# Altium schematic symbol library Current_and_Power_Monitors_and_Regulators.SchLib: 3 symbols
Pins are listed as number, name and electrical type; pins without a type are passive.

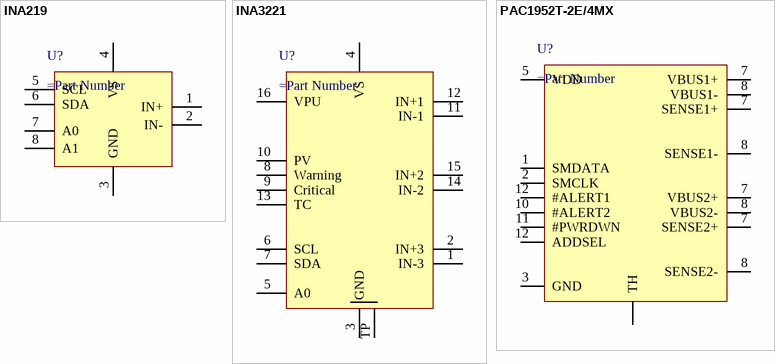
[diagram p0: symbols INA219 to PAC1952T-2E/4MX]

## INA219
designator U?
pins: 1 IN+, 2 IN-, 3 GND, 4 VS, 5 SCL, 6 SDA, 7 A0, 8 A1

## INA3221
designator U?
pins: 1 IN-3, 2 IN+3, 3 GND, 4 VS, 5 A0, 6 SCL, 7 SDA, 8 Warning, 9 Critical, 10 PV, 11 IN-1, 12 IN+1, 13 TC, 14 IN-2, 15 IN+2, 16 VPU, TP

## PAC1952T-2E/4MX
designator U?
pins: 1 SMDATA, 2 SMCLK, 3 GND, 5 VDD, 7 VBUS1+, 7 VBUS2+, 7 SENSE1+, 7 SENSE2+, 8 VBUS1-, 8 VBUS2-, 8 SENSE1-, 8 SENSE2-, 10 #ALERT2, 11 #PWRDWN, 12 #ALERT1, 12 ADDSEL, TH